# Altium integrated library robo_cam.IntLib: 231 symbols (part 5 of 5)
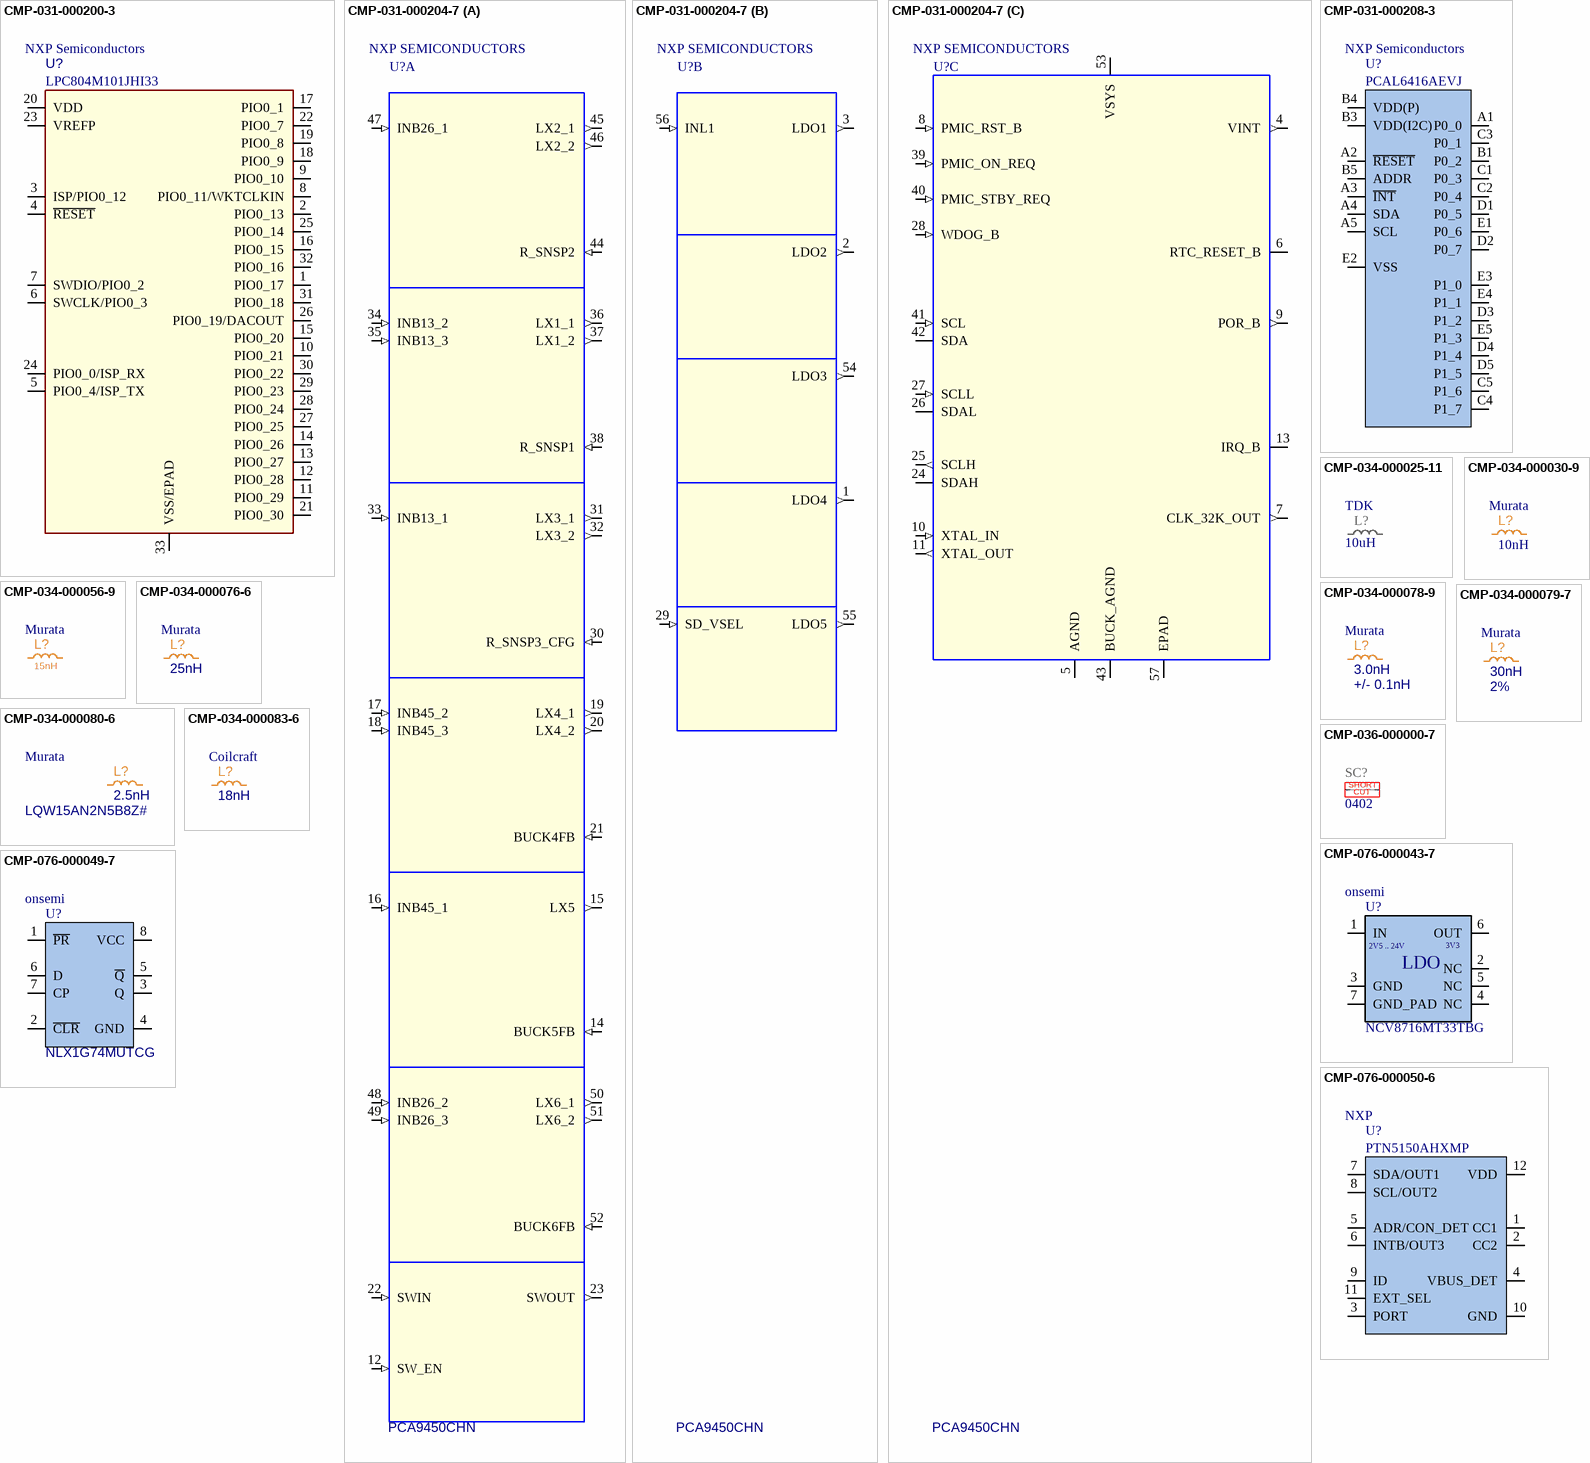
[diagram p16: symbols CMP-031-000200-3 to CMP-076-000050-6]

## CMP-034-000025-11
designator L?, comment value 10uH  Manufacturer: TDK  (hidden comment: IND_0603_10u_MLZ)
IND SHIELDED  MLZ1608M100WTD25; Desc2: inductor_10uH_1R_250mA; Sort order: 346; Tolerance: 10%; HasBeenBuilt: False; Package: 0603; Dimensions WxLxH: 1.6 x 0.8 x 0.8 +-0.15; Part Number: MLZ1608M100WTD25; HasBeenChecked: False; ComponentLink1Description: 1_Datasheet; ComponentLink1URL: https://product.tdk.com/en/search/inductor/inductor/smd/info?part_no=MLZ1608M100WTD25; ComponentLink2Description: 2_Product page; ComponentLink3Description: 3_X-information; ComponentLink4Description: 4_X-information; Creation date: 20230111; Manufacturer Part Number: MLZ1608M100WTD25; Component Type: Inductor
footprint IND_0603_UN1Q (Chip Inductor, Body 1.6x0.8mm)
pins: 1, 2

## CMP-034-000030-9
designator L?, comment value 10nH  Manufacturer: Murata  (hidden comment: IND_0201_10n_RF_MATCHING)
IND_RF_MATCHING; Part Number: LQP03TN10NH02; Tolerance: +/- 3%; Remark: RF matching, use part number; HasBeenBuilt: TBD; System: RLC; Sort order: 206; Package: 0201; ComponentLink2Description: 2_Product page; ComponentLink3Description: 3_X-information; Creation date: 20200101; Source: RLC_UN1Q.SchLib; ComponentLink1Description: 1_Datasheet; Operating temperature range: -55°C ~ 125°C; ComponentLink4Description: 4_X-information; ClassName: SMALL; RoHS: RoHS3; Manufacturer Part Number: LQP03TN10NH02; Component Type: Inductor
footprint IND_0201_UN1Q (Chip Resistor, 0.6x0.3mm, IPC High Density)
pins: 1, 2

## CMP-034-000056-9
designator L?, comment value 15nH  Manufacturer: Murata  (hidden comment: IND_0201_15n0_RF_MATCHING)
IND_RF_MATCHING; Part Number: LQP03TG15NH02; Desc2: inductor_15nH_RF; Tolerance: +/- 3%; Remark: RF matching, use part number; Sort order: 206; HasBeenBuilt: TBD; HasBeenChecked: None; Package: 0201; Operating temperature range: -55°C ~ 125°C; ClassName: SMALL; ComponentLink1Description: 1_Datasheet; ComponentLink2Description: 2_Product page; Creation date: 20200101; ComponentLink3Description: 3_X-information; ComponentLink4Description: 4_X-information; Manufacturer Part Number: LQP03TG15NH02; Component Type: Inductor
footprint IND_0201_UN1Q (Chip Resistor, Body 0.6x0.3mm, IPC High Density)
pins: 1, 2

## CMP-034-000076-6
designator L?, comment value 25nH  Manufacturer: Murata  (hidden comment: IND_0402_25n_RF_MATCHING)
IND_RF_MATCHING; Part Number: LQW15AN25NG8Z; Manufacturer Part Number: LQW15AN25NG8ZD; Tolerance: 2%; Remark: RF matching, use part number; System: RLC; Sort order: 206; Package: 0402; ComponentLink2Description: 2_Product page; ComponentLink3Description: 3_X-information; Creation date: 20240627; ComponentLink1Description: 1_Datasheet; ComponentLink1URL: ttps://www.murata.com/en-global/products/productdetail?partno=LQW15AN25NG8Z%23; Operating temperature range: -55 ... +125C; ClassName: SMALL; ComponentLink4Description: 4_X-information; RoHS: RoHS3; Component Type: Inductor
footprint IND_0402_UN1Q (Chip Resistor, 1.0x0.5mm)
pins: 1, 2

## CMP-034-000078-9
designator L?, comment value 3.0nH  Tolerance: +/- 0.1nH  Manufacturer: Murata  (hidden comment: IND_0402_3n0_RF_MATCHING)
IND_RF_MATCHING, WIREWOUND; Part Number: LQW15AN3N0G80; Manufacturer Part Number: LQW15AN3N0B8ZD; HasBeenBuilt: TBD; Sort order: 206; Remark: RF matching, use part number; System: RLC; ComponentLink3Description: 3_X-information; ComponentLink1URL: https://www.murata.com/en-global/products/productdetail?partno=LQW15AN3N0G80%23; Creation date: 20231024; Source: RLC_UN1Q.SchLib; ComponentLink1Description: 1_Datasheet; Package: 0402; ComponentLink2Description: 2_Product page; Dimensions WxLxH: 0.7 x 1.1 x 0.6mm; Operating temperature range: -55 ... +125C; ClassName: SMALL; ComponentLink4Description: 4_X-information; ECCN: EAR99; RoHS: RoHS3; Component Type: Inductor
footprint IND_0402_UN1Q (Chip Resistor, 1.0x0.5mm)
pins: 1, 2

## CMP-034-000079-7
designator L?, comment value 30nH  Tolerance: 2%  Manufacturer: Murata  (hidden comment: IND_0402_30n_RF_MATCHING)
IND_RF_MATCHING; Part Number: LQW15AN30NG8Z; Manufacturer Part Number: LQW15AN30NG8ZD; Sort order: 206; Remark: RF matching, use part number; System: RLC; ComponentLink3Description: 3_X-information; ComponentLink1URL: ttps://www.murata.com/en-global/products/productdetail?partno=LQW15AN25NG8Z%23; Creation date: 20240627; ComponentLink1Description: 1_Datasheet; Package: 0402; ComponentLink2Description: 2_Product page; Operating temperature range: -55 ... +125C; ClassName: SMALL; ComponentLink4Description: 4_X-information; RoHS: RoHS3; Component Type: Inductor
footprint IND_0402_UN1Q (Chip Resistor, 1.0x0.5mm)
pins: 1, 2

## CMP-034-000080-6
designator L?, comment value 2.5nH  Part Number: LQW15AN2N5B8Z#  Manufacturer: Murata  (hidden comment: IND_0402_2n5_RF_MATCHING)
IND_RF_MATCHING, WIREWOUND; Manufacturer Part Number: LQW15AN2N5B8ZD; Tolerance: +/- 0.1nH; Remark: RF matching, use part number; HasBeenBuilt: TBD; System: RLC; Sort order: 206; Package: 0402; ComponentLink2Description: 2_Product page; ComponentLink3Description: 3_X-information; Creation date: 20231024; Source: RLC_UN1Q.SchLib; ComponentLink1Description: 1_Datasheet; ComponentLink1URL: https://www.mouser.fi/datasheet/2/281/1/JELF243A_9138-1699493.pdf; Operating temperature range: -55 ... +125C; ClassName: SMALL; ComponentLink4Description: 4_X-information; RoHS: RoHS3; Component Type: Inductor
footprint IND_0402_UN1Q (Chip Resistor, 1.0x0.5mm)
pins: 1, 2

## CMP-034-000083-6
designator L?, comment value 18nH  Manufacturer: Coilcraft  (hidden comment: IND_0402_18n_RF_MATCHING_Coilcraft)
IND_RF_MATCHING; Part Number: 0402DC-18NXGRW; Tolerance: 2%; Remark: RF matching, use part number; System: RLC; Sort order: 206; Package: 0402; ComponentLink2Description: 2_Product page; ComponentLink3Description: 3_X-information; Creation date: 20240830; ComponentLink1Description: 1_Datasheet; ComponentLink1URL: https://www.coilcraft.com/getmedia/b3553702-9a56-4386-b513-fcddf8709240/0402dc.pdf; ComponentLink2URL: https://www.coilcraft.com/en-us/products/rf/ceramic-core-chip-inductors/0402-(1005)/0402dc/0402dc-18n/; Operating temperature range: -55 ... +125C; ClassName: SMALL; ComponentLink4Description: 4_X-information; RoHS: RoHS3; Manufacturer Part Number: 0402DC-18NXGRW; Component Type: Inductor
footprint IND_0402_UN1Q (Chip Resistor, 1.0x0.5mm)
pins: 1, 2

## CMP-036-000000-7
designator SC?, comment value 0402  (hidden comment: SHORTCUT_0402)  (net tie, no BOM)
SHORTCUT 0402; Sort order: 999; HasBeenBuilt: TBD; System: RLC; Package: 0402; ClassName: SMALL; ComponentLink1Description: 1_Datasheet; ComponentLink2Description: 2_Product page; ComponentLink3Description: 3_X-information; ComponentLink4Description: 4_X-information; Creation date: 202105018; Source: RLC_UN1Q.SchLib; Component Type: Resistor
footprint SHORTCUT_0402 (SHORTCUT 0402)
pins: 1, 2
text: SHORT; CUT

## CMP-076-000043-7
designator U?, comment Part Number: NCV8716MT33TBG  Manufacturer: onsemi  (hidden comment: LDO_NCV8716)
Low Dropout Regulator - Ultra-Low Iq, 80mA @ 3V3; Manufacturer: ON Semiconductor; HasBeenBuilt: SleeveIO_01; Sort order: 457; System: IC; ComponentLink1Description: 1_Datasheet; ComponentLink1URL: https://www.onsemi.com/pdf/datasheet/ncv8716-d.pdf; ComponentLink2Description: 2_Product page; ComponentLink2URL: https://www.onsemi.com/products/power-management/linear-regulators-ldo/ncv8716; ComponentLink3Description: 3_X-information; ComponentLink4Description: 4_X-information; Creation date: 20210507; Dimensions WxLxH: 2 x 2 x 0.8mm; Operating temperature range: -40 ... +125 °C; Package: WDFN6; Source: IC_UN1Q.SchLib; Design Item ID: LDO_NCV8716; Manufacturer Part Number: NCV8716MT33TBG; Component Type: Power Supply
footprint WDFN6_NCV8716 (WDFN6 2 x 2 x 0.8mm for NCV8716MT33TBG)
pins: 1 IN (power), 2 NC, 3 GND (power), 4 NC, 5 NC, 6 OUT (power), 7 GND_PAD (power)
text: 2V5 .. 24V; 3V3; LDO

## CMP-076-000049-7
designator U?, comment Manufacturer: onsemi  (hidden comment: NLX1G74MUTCG)
Single D Flip-Flop; Manufacturer: ON Semiconductor; Sort order: 501; System: IC; ComponentLink1Description: 1_Datasheet; ComponentLink1URL: https://www.onsemi.com/pdf/datasheet/nlx1g74-d.pdf; ComponentLink2Description: 2_Product page; ComponentLink2URL: https://www.onsemi.com/products/timing-logic-memory/standard-logic/d-flip-flops-and-jk-flip-flops/nlx1g74; ComponentLink3Description: 3_X-information; ComponentLink3URL: https://www.onsemi.com/pub/collateral/523an.pdf; ComponentLink4Description: 4_X-information; Creation date: 20211116; Dimensions WxLxH: 1.6x1.6x0.6; Operating temperature range: -40 .... +85 °C; Package: UQFN8; Part Number: NLX1G74MUTCG; Source: IC_UN1Q.SchLib; Design Item ID: NLX1G74MUTCG; ECCN: EAR99; RoHS: RoHS3; Manufacturer Part Number: NLX1G74MUTCG; Component Type: Logic
footprint UQFN8_NLX1G74_ONSEMI (UQFN8)
pins: 1 ~{PR}, 2 ~{CLR}, 3 Q, 4 GND, 5 ~{Q}, 6 D, 7 CP, 8 VCC

## CMP-076-000050-6
designator U?, comment Manufacturer: NXP  (hidden comment: PTN5150AHXMP)
CC logic for USB Type-C applications; Sort order: 501; System: IC; HasBeenBuilt: SALUKI_V2; Operating temperature range: -40C ... +85C; Design Item ID: PTN5150AHXMP; ComponentLink3Description: 3_X-information; ComponentLink1Description: 1_Datasheet; Package: X2QFN12; Source: IC_UN1Q.SchLib; ComponentLink4Description: 4_X-information; Dimensions WxLxH: 1.6x1.6x0.4mm; ComponentLink1URL: https://www.nxp.com/docs/en/data-sheet/PTN5150A.pdf; ComponentLink2Description: 2_Product page; ComponentLink2URL: https://www.nxp.com/part/PTN5150AHX#/; Creation date: 20220314; Part Number: PTN5150AHXMP; Manufacturer Part Number: PTN5150AHXMP; Component Type: Logic
footprint X2QFN12_NXP (X2QFN12 NXP)
pins: 1 CC1, 2 CC2, 3 PORT, 4 VBUS_DET, 5 ADR/CON_DET, 6 INTB/OUT3, 7 SDA/OUT1, 8 SCL/OUT2, 9 ID, 10 GND, 11 EXT_SEL, 12 VDD

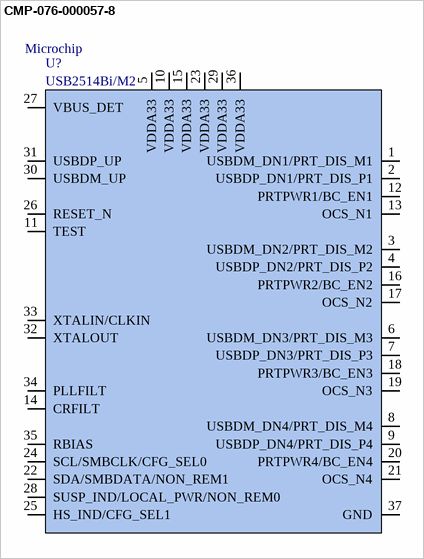
[diagram p12: symbol CMP-076-000057-8]

## CMP-076-000057-8
designator U?, comment Part Number: USB2514Bi/M2  Manufacturer: Microchip  (hidden comment: USB2514Bi_M2)
USB 2.0 Hi-Speed Hub Controller; HasBeenBuilt: SleeveIO_01; Sort order: 501; System: IC; ClassName: BIG; ComponentLink1Description: 1_Datasheet; ComponentLink1URL: http://www.microchip.com/mymicrochip/filehandler.aspx?ddocname=en562310; ComponentLink2Description: 2_Product page; ComponentLink2URL: https://www.microchip.com/en-us/product/USB2513B; Creation Date: 20211026; Dimensions WxLxH: 6x6x1; Operating temperature range: -40 ... +85 °C; Package: SQFN36; Source: IC_UN1Q.SchLib; Design Item ID: USB2514Bi_M2; ComponentLink3Description: 3_X-information; ComponentLink4Description: 4_X-information; Manufacturer Part Number: USB2514Bi/M2; Component Type: Data Converter
footprint USB251xB_QFN36P50_600X600X100 (SQFN36)
pins: 1 USBDM_DN1/PRT_DIS_M1, 2 USBDP_DN1/PRT_DIS_P1, 3 USBDM_DN2/PRT_DIS_M2, 4 USBDP_DN2/PRT_DIS_P2, 5 VDDA33, 6 USBDM_DN3/PRT_DIS_M3, 7 USBDP_DN3/PRT_DIS_P3, 8 USBDM_DN4/PRT_DIS_M4, 9 USBDP_DN4/PRT_DIS_P4, 10 VDDA33, 11 TEST, 12 PRTPWR1/BC_EN1, 13 OCS_N1, 14 CRFILT, 15 VDDA33, 16 PRTPWR2/BC_EN2, 17 OCS_N2, 18 PRTPWR3/BC_EN3, 19 OCS_N3, 20 PRTPWR4/BC_EN4, 21 OCS_N4, 22 SDA/SMBDATA/NON_REM1, 23 VDDA33, 24 SCL/SMBCLK/CFG_SEL0, 25 HS_IND/CFG_SEL1, 26 RESET_N, 27 VBUS_DET, 28 SUSP_IND/LOCAL_PWR/NON_REM0, 29 VDDA33, 30 USBDM_UP, 31 USBDP_UP, 32 XTALOUT, 33 XTALIN/CLKIN, 34 PLLFILT, 35 RBIAS, 36 VDDA33, 37 GND